# EAGLE library part 6N135 (library GadgetFactory_v1)
MOTOROLA OPTO COUPLER
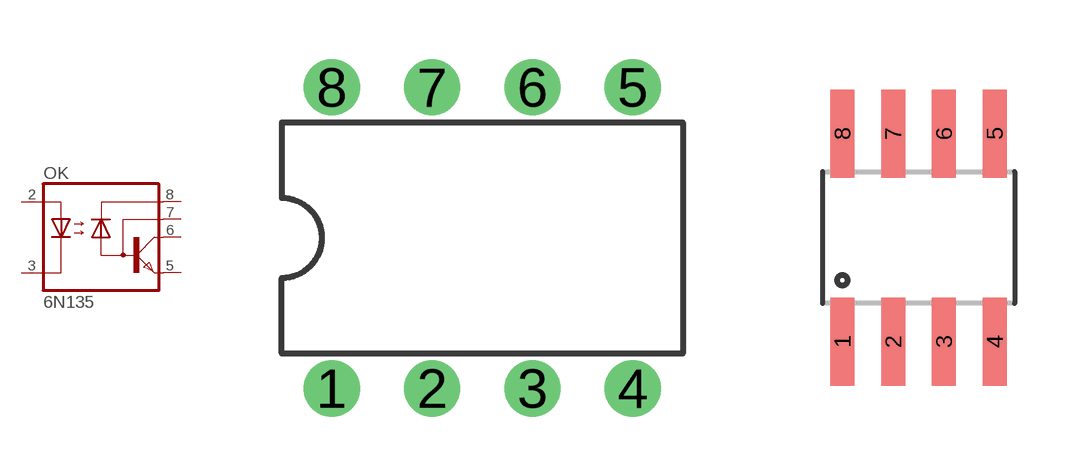
[diagram p60: symbol with the pads of DIL08; footprints DIL08, SO8]

Designator prefix OK

## 6N135 (MF: FAIRCHILD SEMICONDUCTOR; MPN: 6N135; OC_FARNELL: 1021342; OC_NEWARK: 58K9658)  [DIL08]
2  A  pas
3  C  pas
5  GND  pas
6  VO  pas
7  VB  pas
8  VCC  pas

## 6N135S  [SO8]
Pads as for DIL08

## 6N135SON  [SON-OPTO]
Pads as for DIL08

## 6N135SOW  [SOW-OPTO]
Pads as for DIL08

## Footprint DIL08 (pad centres in mm)
Dual In Line Package
drill 0.813 pad 1.422: 1 -3.81,-3.81; 2 -1.27,-3.81; 3 1.27,-3.81; 4 3.81,-3.81; 5 3.81,3.81; 6 1.27,3.81; 7 -1.27,3.81; 8 -3.81,3.81

## Footprint SO8 (pad centres in mm)
8-Lead Small Outline IC (SO-8) Source: http://www.analog.com/UploadedFiles/Data_Sheets/703465986AD8611_2_0.pdf
smd 0.6 x 2.2: 1 -1.905,-2.6; 2 -0.635,-2.6; 3 0.635,-2.6; 4 1.905,-2.6; 5 1.905,2.6; 6 0.635,2.6; 7 -0.635,2.6; 8 -1.905,2.6

## Footprint SON-OPTO (pad centres in mm)
smd 1.78 x 1.52: 1 -3.81,-4.505; 2 -1.27,-4.505; 3 1.27,-4.505; 4 3.81,-4.505; 5 3.81,4.505; 6 1.27,4.505; 7 -1.27,4.505; 8 -3.81,4.505

## Footprint SOW-OPTO (pad centres in mm)
smd 1.78 x 1.52: 1 -3.81,-5.74; 2 -1.27,-5.74; 3 1.27,-5.74; 4 3.81,-5.74; 5 3.81,5.74; 6 1.27,5.74; 7 -1.27,5.74; 8 -3.81,5.74